# EAGLE library part ATTINY167-A15XD (library ATTINY167-A15XD)
8-bit Microcontrollers - MCU 8-bit 16KB Flash LIN 15MHz Auto Source: Datasheet <https://componentsearchengine.com/Datasheets/1/ATTINY167-A15XD.pdf>
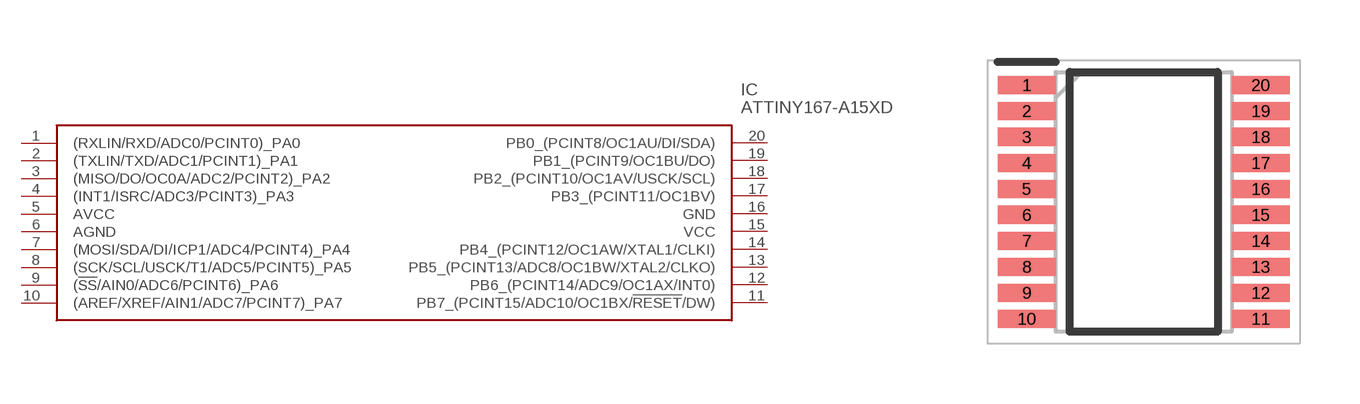
[diagram p0: symbol with the pads of SOP65P640X110-20N; footprint SOP65P640X110-20N]

Designator prefix IC

## ATTINY167-A15XD (Description: 8-bit Microcontrollers - MCU 8-bit 16KB Flash LIN 15MHz Auto; Height: 1.1mm; Manufacturer_Name: Microchip; Manufacturer_Part_Number: ATTINY167-A15XD; Mouser_Part_Number: 556-ATTINY167-A15XD; Mouser_Price-Stock: https://www.mouser.com/Search/Refine.aspx?Keyword=556-ATTINY167-A15XD)  [SOP65P640X110-20N]
1  (RXLIN/RXD/ADC0/PCINT0)_PA0
2  (TXLIN/TXD/ADC1/PCINT1)_PA1
3  (MISO/DO/OC0A/ADC2/PCINT2)_PA2
4  (INT1/ISRC/ADC3/PCINT3)_PA3
5  AVCC
6  AGND
7  (MOSI/SDA/DI/ICP1/ADC4/PCINT4)_PA4
8  (SCK/SCL/USCK/T1/ADC5/PCINT5)_PA5
9  (!SS!/AIN0/ADC6/PCINT6)_PA6
10  (AREF/XREF/AIN1/ADC7/PCINT7)_PA7
11  PB7_(PCINT15/ADC10/OC1BX/!RESET!/DW)
12  PB6_(PCINT14/ADC9/OC1AX/INT0)
13  PB5_(PCINT13/ADC8/OC1BW/XTAL2/CLKO)
14  PB4_(PCINT12/OC1AW/XTAL1/CLKI)
15  VCC
16  GND
17  PB3_(PCINT11/OC1BV)
18  PB2_(PCINT10/OC1AV/USCK/SCL)
19  PB1_(PCINT9/OC1BU/DO)
20  PB0_(PCINT8/OC1AU/DI/SDA)

## Footprint SOP65P640X110-20N (pad centres in mm)
20lead tssop
smd 1.45 x 0.45: 1 -2.925,2.925; 2 -2.925,2.275; 3 -2.925,1.625; 4 -2.925,0.975; 5 -2.925,0.325; 6 -2.925,-0.325; 7 -2.925,-0.975; 8 -2.925,-1.625; 9 -2.925,-2.275; 10 -2.925,-2.925; 11 2.925,-2.925; 12 2.925,-2.275; 13 2.925,-1.625; 14 2.925,-0.975; 15 2.925,-0.325; 16 2.925,0.325; 17 2.925,0.975; 18 2.925,1.625; 19 2.925,2.275; 20 2.925,2.925